# EAGLE library part E22-400T30S (library NEON-BLADE-2024-new)
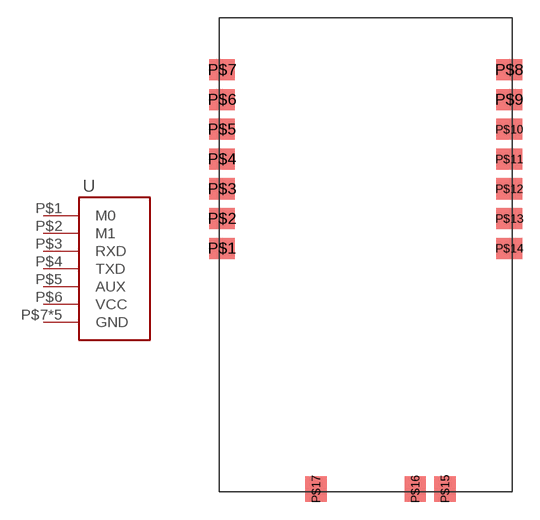
[diagram p16: symbol with the pads of E22-400T30S; footprint E22-400T30S]

Designator prefix -

## E22-400T30S  [E22-400T30S]
P$1  M0
P$2  M1
P$3  RXD
P$4  TXD
P$5  AUX
P$6  VCC
P$7  GND
P$9  GND
P$15  GND
P$16  GND
P$17  GND

## Footprint E22-400T30S (pad centres in mm)
smd 2.2 x 1.8: P$1 -24.75,20.8; P$2 -24.75,23.34; P$3 -24.75,25.88; P$4 -24.75,28.42; P$5 -24.75,30.96; P$6 -24.75,33.5; P$7 -24.75,36.04; P$8 -0.25,36.04; P$9 -0.25,33.5; P$10 -0.25,30.96; P$11 -0.25,28.42; P$12 -0.25,25.88; P$13 -0.25,23.34; P$14 -0.25,20.8
smd 1.8 x 2.2: P$15 -5.73,0.25; P$16 -8.27,0.25; P$17 -16.73,0.25